# Altium footprint library Special.PcbLib: 2 footprints
Each footprint in its own frame and in the unit in brackets; x right, y up, seen from the top. Pads: shape width x height; smd on the part's side, far side on the other; paste and mask are expansions set on the pad; w line width, h text height; cw(c..) or ccw(c..) is an arc to the next point about the centre after c.
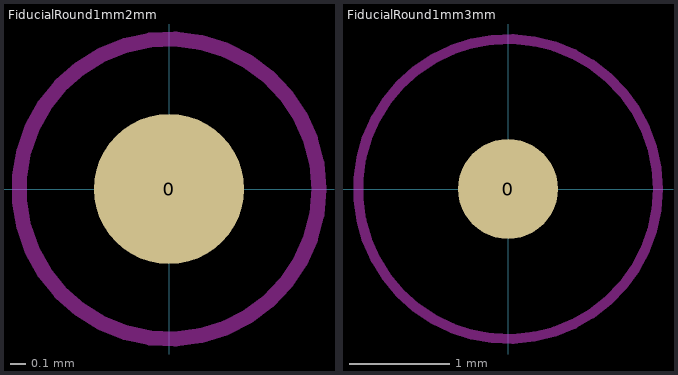
[diagram p0: the footprints below, top view; thin cyan lines are the x and y axes]

## FiducialRound1mm2mm [mm]
pads (1):
  round 1 smd mask+0.5: 0(0,0)
Top Layer keep-out:
  circle w0.1: c0,0 r1

## FiducialRound1mm3mm [mm]
pads (1):
  round 1 smd mask+1: 0(0,0)
Top Layer keep-out:
  circle w0.1: c0,0 r1.5